# Altium footprint library RBM_PCB-Lib_11-Mar-19.PcbLib: 48 footprints (part 2 of 3)
Each footprint in its own frame and in the unit in brackets; x right, y up, seen from the top. Pads: shape width x height; smd on the part's side, far side on the other; paste and mask are expansions set on the pad; w line width, h text height; cw(c..) or ccw(c..) is an arc to the next point about the centre after c.
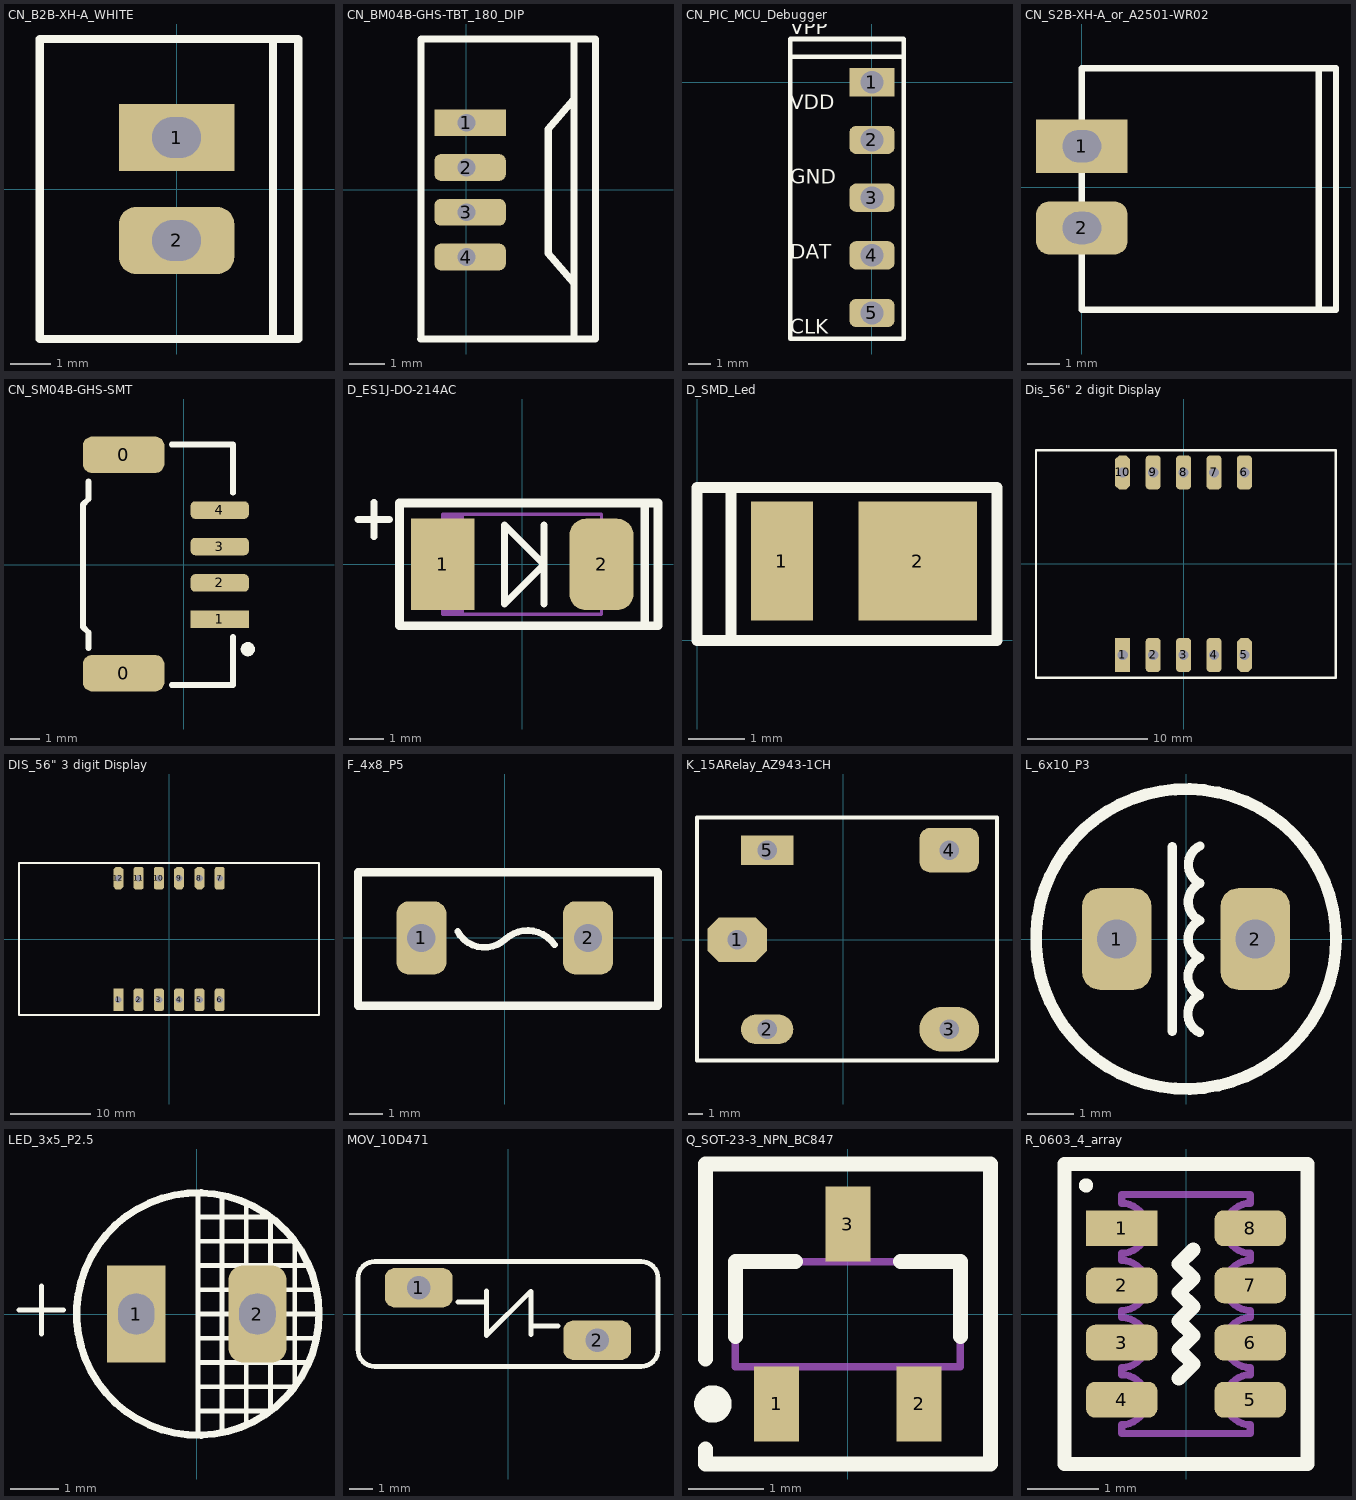
[diagram p1: the footprints below, top view; thin cyan lines are the x and y axes]

## CN_B2B-XH-A_WHITE [mm]
pads (2):
  rect 2.85x1.65 hole 1.2 slot 1 at 90 deg: 1(0,1.27)
  rrect50% 2.85x1.65 hole 1.2 slot 1 at 90 deg: 2(0,-1.27)
Top Overlay:
  lines w0.2: 2.375,-3.7 3,-3.7 3,3.7 2.375,3.7 ; 2.375,-3.7 -3.375,-3.7 -3.375,3.7 2.375,3.7 ; 2.375,-3.7 2.375,3.7
3D body "B2B-XH-A.STEP": height 7, standoff -3.4, extent -3.375,-3.7 2.375,3.7
3D body: height 7, standoff -3.5, extent -0.35,0.925 0.35,1.615
3D body: height 7, standoff -3.5, extent -0.35,-1.615 0.35,-0.925

## CN_BM04B-GHS-TBT_180_DIP [mm] "Top Entry Header 1.25mm pitch 1X4pin  180° long"
pads (4):
  rect 2x0.75 hole 0.5 copper offset 0.1,0: 1(0,1.875)
  rrect50% 2x0.75 hole 0.5 copper offset 0.1,0: 2(0,0.625) 3(0,-0.625) 4(0,-1.875)
Top Overlay:
  lines w0.2: -1.28,-4.166 3.6,-4.166 3.6,4.216 -1.27,4.216 -1.27,-4.084 ; 2.985,2.513 2.286,1.697 2.286,-1.774 2.996,-2.603 ; 3,-4.084 3,4.216

## CN_PIC_MCU_Debugger [mm]
pads (5):
  rect 2x1.25 hole 1: 1(0,0)
  rrect50% 2x1.25 hole 1: 2(0,-2.54) 3(0,-5.08) 4(0,-7.62) 5(0,-10.16)
Top Overlay:
  lines w0.203: -3.6,1.127 1.4,1.127 ; -3.6,-11.3 -3.6,1.905 1.4,1.905 1.4,-11.3 -3.6,-11.3
  text "VPP /  /  / VDD /  /  / GND /  /  / DAT /  /  / CLK" at -3.6,-11.3 h1.1
Bottom Overlay:
  lines w0.203: -3.6,1.122 1.4,1.122 ; -3.6,-11.305 -3.6,1.9 1.4,1.9 1.4,-11.305 -3.6,-11.305
  text "VPP /  /  / VDD /  /  / GND /  /  / DAT /  /  / CLK" at -1.3,-11.305 h1.1

## CN_S2B-XH-A_or_A2501-WR02 [mm]
pads (2):
  rect 2.85x1.65 hole 1.2 slot 1 at 90 deg: 1(0,1.27)
  rrect50% 2.85x1.65 hole 1.2 slot 1 at 90 deg: 2(0,-1.27)
Top Overlay:
  lines w0.2: 7.366,-3.81 7.9,-3.81 7.9,-3.276 7.9,3.691 7.366,3.691 ; 7.366,-3.81 7.366,-1.935 7.366,1.816 7.366,3.691 ; 7.366,-3.81 0,-3.81 0,3.691 7.366,3.691
3D body "SideEntry-XH-2_5mm(A2501-WR02).step": height 5.95, standoff -3.35, extent -0.386,-3.75 7.254,3.75

## CN_SM04B-GHS-SMT [mm]
pads (7):
  rrect50% 2.8x1.25 smd: 0(-2.066,-3.725) 0(-2.066,3.775)
  rect 2x0.6 smd: 1(1.234,-1.875)
  rrect50% 2x0.6 smd: 2(1.234,-0.625) 3(1.234,0.625) 4(1.234,1.875)
  round 0.5 on Top Overlay: ""(2.2,-2.9)
Top Overlay:
  lines w0.2: -3.269,-2.86 -3.269,-2.325 -3.465,-2.129 -3.465,2.062 -3.269,2.258 -3.269,2.855 ; -0.416,-4.13 1.684,-4.13 1.684,-2.479 ; -0.416,4.125 1.684,4.125 1.684,2.474
3D body "SM04B-GHS-TB.STEP": height 4.35, standoff 0, extent -3.166,-4.125 1.685,4.125

## D_ES1J-DO-214AC [mm] "Molded Diode, 2-Leads, Body 4.29x2.69mm, IPC Medium Density"
height 2.44
pads (2):
  rect 1.85x2.65 smd: 1(-2.3,0)
  rrect50% 1.85x2.65 smd: 2(2.3,0)
Top Overlay:
  lines w0.2: -4.758,1.3 -3.842,1.3 ; -4.291,0.8 -4.291,1.8 ; 0.635,-1.143 0.635,1.143 ; -0.508,-1.143 0.635,0 -0.508,1.143 -0.508,-1.143
  lines w0.254: 3.556,-1.778 3.556,1.778 ; -3.556,-1.778 -3.556,1.778 3.937,1.778 3.937,-1.778 -3.556,-1.778
Mechanical 13:
  rectangle: -2.3,-1.45 -1.681,1.45
  lines w0.1: -2.3,-1.45 2.3,-1.45 2.3,1.45 -2.3,1.45 -2.3,-1.45
3D body "DIOM4327X24N.step": height 2.44, standoff 0, extent -2.52,-1.45 2.52,1.45

## D_SMD_Led [mm]
pads (2):
  rect 1.1x2.1 smd: 1(1.5,1.4)
  rect 2.1x2.1 smd: 2(3.9,1.4)
Top Overlay:
  lines w0.2: 0.6,0 5.3,0 5.3,2.7 0.6,2.7 ; 0.6,0 0.6,2.7 ; 0.6,0 0,0 0,2.7 0.6,2.7
3D body "EMC3030.STEP": height 0.6, standoff 0, extent 1.2,0.1 4.4,3.1

## Dis_56" 2 digit Display [mm]
pads (10):
  rect 1.25x2.85 hole 0.85: 1(-5.08,-7.62)
  rrect50% 1.25x2.85 hole 0.85: 2(-2.54,-7.62) 3(0,-7.62) 4(2.54,-7.62) 6(5.08,7.62) 7(2.54,7.62) 8(0,7.62) 9(-2.54,7.62)
  oct 1.25x2.85 hole 0.85: 5(5.08,-7.62) 10(-5.08,7.62)
Top Overlay:
  lines w0.2: -12.319,-9.525 -12.319,9.475 12.7,9.475 12.7,-9.525 ; -12.28,-9.525 12.72,-9.525
Bottom Overlay:
  text "d" at -4.878,-4.833 h1
  text "dp" at -1.738,-4.9 h1
  text "e" at 0.201,-4.833 h1
  text "c" at 2.742,-4.833 h1
  text "g" at -2.24,4.3 h1
  text "f" at 0.301,4.167 h1
  text "b" at 5.38,4.167 h1
  text "a" at 2.9,4.167 h1
  text "D1" at -4.4,4.1 h1
  text "D2" at 5.8,-5 h1
3D body: height 8.1, standoff -5.5, extent -16.11,10.118 -16.11,10.118
3D body: height 7, standoff 1, extent -12.3,-9.313 12.719,9.61
3D body: height 7, standoff 1, extent -12.319,-9.525 12.7,9.398
3D body: height 3, standoff -3, extent -2.798,-7.879 -2.28,-7.36
3D body: height 3, standoff -3, extent -0.258,-7.879 0.26,-7.36
3D body: height 3, standoff -3, extent 2.282,-7.879 2.8,-7.36
3D body: height 3, standoff -3, extent 4.822,-7.879 5.34,-7.36
3D body: height 3, standoff -3, extent -5.338,-7.879 -4.82,-7.36
3D body: height 3, standoff -3, extent 4.822,7.361 5.34,7.88
3D body: height 3, standoff -3, extent 2.282,7.361 2.8,7.88
3D body: height 3, standoff -3, extent -0.258,7.361 0.26,7.88
3D body: height 3, standoff -3, extent -2.798,7.361 -2.28,7.88
3D body: height 3, standoff -3, extent -5.338,7.361 -4.82,7.88

## DIS_56" 3 digit Display [mm]
pads (12):
  rect 1.25x2.85 hole 0.85: 1(-6.35,-7.62)
  rrect50% 1.25x2.85 hole 0.85: 2(-3.81,-7.62) 3(-1.27,-7.62) 4(1.27,-7.62) 5(3.81,-7.62) 6(6.35,-7.62) 7(6.35,7.62) 10(-1.27,7.62) 11(-3.81,7.62)
  oct 1.25x2.85 hole 0.85: 8(3.81,7.62) 9(1.27,7.62) 12(-6.35,7.62)
Top Overlay:
  lines w0.2: -18.796,-9.525 18.796,-9.525 18.796,9.525 -18.796,9.525 -18.796,-9.525
Bottom Overlay:
  text "a" at -3.37,4.3 h1
  text "b" at 6.73,4.2 h1
  text "f" at -1.07,4.3 h1
  text "g" at 4.1,-4.567 h1
  text "c" at 1.6,-4.7 h1
  text "e" at -6.1,-4.767 h1
  text "dp" at -0.5,-4.7 h1
  text "d" at -3.5,-4.8 h1
  text "D3" at 4.64,4.2 h1
  text "D2" at 2.13,4.2 h1
  text "D1" at -5.67,4.2 h1
3D body "User Library-5631_w_o_color_jam.step": height 8.1, standoff -5.5, extent -18.796,-9.525 18.804,9.475

## F_4x8_P5 [mm]
pads (2):
  rrect50% 1.5x2.2 hole 0.85: 1(-2.5,0) 2(2.5,0)
Top Overlay:
  lines w0.2: -1.413,0.191 ccw(c-0.609,0.633) 0.034,-0.022 ; 0.001,-0.057 cw(c0.685,-0.753) 1.494,-0.206
  lines w0.254: -4.402,-2.032 4.598,-2.032 4.598,1.968 -4.402,1.968 -4.402,-2.032
3D body: height 7, standoff 0.68, extent -4.505,-1.968 4.512,1.968
3D body: height 1.5, standoff -2, extent -2.797,-0.299 -2.199,0.3
3D body: height 1.5, standoff -2, extent 2.203,-0.299 2.801,0.3

## K_15ARelay_AZ943-1CH [mm]
pads (5):
  oct 4x3 hole 1.3: 1(-7.1,0)
  oval 3.5x2 hole 1.3: 2(-5.1,-6)
  oval 4x3 hole 1.3: 3(7.1,-6)
  rrect50% 4x3 hole 1.3: 4(7.1,6)
  rect 3.5x2 hole 1.3: 5(-5.1,6)
Top Overlay:
  lines w0.254: -9.8,8.2 -9.8,-8.1 10.3,-8.1 10.3,8.2 -9.7,8.2
Bottom Overlay:
  lines w0.042: -2.978,0 1,0 3.497,1.018 ; -2.004,-1.993 -0.989,-1.993 -0.989,-1.484 ; -2.004,1.993 -0.989,1.993 -0.989,1.526 ; -0.991,-1.451 ccw(c-1.01,-0.975) -0.989,-0.499 ; -0.991,-0.466 ccw(c-1.01,0.021) -0.947,0.504 ; -0.991,0.552 ccw(c-1.01,1.039) -0.989,1.525 ; 3.497,-1.993 3.497,-1.018 ; 3.497,1.993 3.497,1.018 ; 3.497,-1.018 3.031,-1.484 4.004,-1.484 3.497,-1.018 ; 3.497,1.018 4.004,1.526 3.031,1.526 3.497,1.018 ; -3.485,-3.01 4.512,-3.01 4.512,3.01 -3.485,3.01 -3.485,-3.01
3D body: height 15, standoff 0.56, extent -9.8,-8.1 10.3,8.2
3D body: height 2.6, standoff -4.4, extent 6.505,-6.599 7.7,-5.401
3D body: height 2.6, standoff -4.4, extent 6.505,5.401 7.7,6.599
3D body: height 2.6, standoff -4.4, extent -5.695,5.401 -4.5,6.599
3D body: height 2.6, standoff -4.4, extent -7.695,-0.599 -6.5,0.599
3D body: height 2.6, standoff -4.4, extent -5.695,-6.599 -4.5,-5.401

## L_6x10_P3 [mm]
pads (2):
  rrect50% 1.5x2.2 hole 0.85: 1(-1.5,0) 2(1.5,0)
Top Overlay:
  circle w0.254: c0,0 r3.25
  lines w0.2: -0.3,-2 -0.3,2 ; 0.293,-2.025 cw(c0.489,-1.622) 0.295,-1.217 cw(c0.492,-0.813) 0.298,-0.408 cw(c0.494,-0.005) 0.3,0.4 cw(c0.497,0.804) 0.302,1.208 cw(c0.499,1.612) 0.305,2.017
3D body: height 11.5, standoff 0.5, extent -2.993,-3.07 3.006,2.93
3D body: height 3.25, standoff 0.25, extent -3.242,-3.316 3.258,3.177
3D body: height 13, standoff 10, extent -3.242,-3.316 3.258,3.177
3D body: height 2, standoff -1, extent -1.799,-0.299 -1.201,0.299
3D body: height 2, standoff -1, extent 1.202,-0.299 1.8,0.3

## LED_3x5_P2.5 [mm]
pads (2):
  rect 1.2x2 hole 0.85 slot 0.75 at 0 deg: 1(-1.25,0)
  rrect50% 1.2x2 hole 0.85 slot 0.75 at 0 deg: 2(1.25,0)
Top Overlay:
  circle w0.15: c0.02,0 r2.5
  lines w0.1: -3.67,0.083 -2.754,0.083 ; -3.203,-0.417 -3.203,0.583 ; 0.02,-2.5 0.02,2.5 ; 0.02,-2 1.52,-2 1.52,2 0.02,2 ; 0.02,-1.5 2.02,-1.5 2.02,1.497 ; 0.02,-1 2.32,-1 ; 0.02,-0.5 2.42,-0.5 ; 0.02,0 2.52,0 ; 0.02,0.5 2.433,0.5 ; 0.02,1 2.32,1 ; 0.02,1.5 2.02,1.5 ; 0.52,-2.4 0.52,2.4 ; 1.02,-2.3 1.02,2.3
3D body "LED_3x5_P2.5.STEP": height 5.38, standoff -3.17, extent -1.974,-1.498 2.014,1.994

## MOV_10D471 [mm]
pads (2):
  rrect50% 2.85x1.65 hole 1: 1(-3.75,1.1) 2(3.75,-1.1)
Top Overlay:
  lines w0.1: 0.998,-0.51 1.009,-0.5
  lines w0.2: -5.1,2.2 5.6,2.2 cw(c5.6,1.5) 6.3,1.5 6.3,-1.5 cw(c5.6,-1.5) 5.6,-2.2 -5.6,-2.2 cw(c-5.6,-1.5) -6.3,-1.5 -6.3,1.5 cw(c-5.6,1.5) -5.6,2.2 -4.9,2.2 ; -2.1,0.499 -0.921,0.499 ; -0.908,0.967 -0.908,-0.903 0.954,0.959 ; 0.967,-0.875 0.967,0.959 ; 1.009,-0.5 2.1,-0.5
3D body: height 3, standoff -2, extent 3.343,-1.509 4.16,-0.691
3D body: height 3, standoff -2, extent -4.158,0.691 -3.342,1.509
3D body "User Library-S10K275.STEP": height 13.55, standoff -1.95, extent -6,-1.9 6,1.901

## Q_SOT-23-3_NPN_BC847 [mm] "SOT23, 3-Leads, Body 2.90x2.45mm, Pitch 0.95mm, IPC Medium Density"
height 1.15
pads (3):
  rect 0.6x1 smd: 1(-0.95,-1.2) 2(0.95,-1.2) 3(0,1.2)
Top Overlay:
  circle w0.25: c-1.8,-1.2 r0.125
  lines w0.2: -1.9,-1.8 -1.9,-2 1.9,-2 1.9,2 -1.9,2 -1.9,-0.6 ; -1.5,-0.3 -1.5,0.7 -0.7,0.7 ; 0.7,0.7 1.5,0.7 1.5,-0.3
Mechanical 13:
  lines w0.1: -1.5,-0.7 -1.5,0.7 1.5,0.7 1.5,-0.7 -1.5,-0.7
3D body "SOT95P245X115-3N.step": height 1.15, standoff 0, extent -1.5,-1.3 1.5,1.3

## R_0603_4_array [mm] "Chip Array, Concave, 8-Leads, Pitch 0.80mm,  Body 3.20x1.60mm,  IPC Medium Density"
height 0.7
pads (8):
  rect 1x0.5 smd: 1(-0.9,1.2)
  rrect50% 1x0.5 smd: 2(-0.9,0.4) 3(-0.9,-0.4) 4(-0.9,-1.2) 5(0.9,-1.2) 6(0.9,-0.4) 7(0.9,0.4) 8(0.9,1.2)
Top Overlay:
  circle w0.1: c-1.4,1.8 r0.05
  lines w0.2: -0.1,-0.9 0.1,-0.7 -0.1,-0.5 0.1,-0.3 -0.1,-0.1 0.1,0.1 -0.1,0.3 0.1,0.5 -0.1,0.7 0.1,0.9 ; -1.7,-2.1 -1.7,2.1 1.7,2.1 1.7,-2.1 -1.7,-2.1
Mechanical 13:
  lines w0.1: -0.9,-1.675 -0.9,-1.55 ccw(c-0.9,-1.2) -0.9,-0.85 -0.9,-0.75 ccw(c-0.9,-0.4) -0.9,-0.05 -0.9,0.05 ccw(c-0.9,0.4) -0.9,0.75 -0.9,0.85 ccw(c-0.9,1.2) -0.9,1.55 -0.9,1.675 0.9,1.675 0.9,1.55 ccw(c0.9,1.2) 0.9,0.85 0.9,0.75 ccw(c0.9,0.4) 0.9,0.05 0.9,-0.05 ccw(c0.9,-0.4) 0.9,-0.75 0.9,-0.85 ccw(c0.9,-1.2) 0.9,-1.55 0.9,-1.675 -0.9,-1.675
3D body "R_0603_4_array.step": height 0.7, standoff 0, extent -0.95,-1.675 0.95,1.675